# Altium footprint library MY_TP.PCBLIB: 9 footprints
Each footprint in its own frame and in the unit in brackets; x right, y up, seen from the top. Pads: shape width x height; smd on the part's side, far side on the other; paste and mask are expansions set on the pad; w line width, h text height; cw(c..) or ccw(c..) is an arc to the next point about the centre after c.
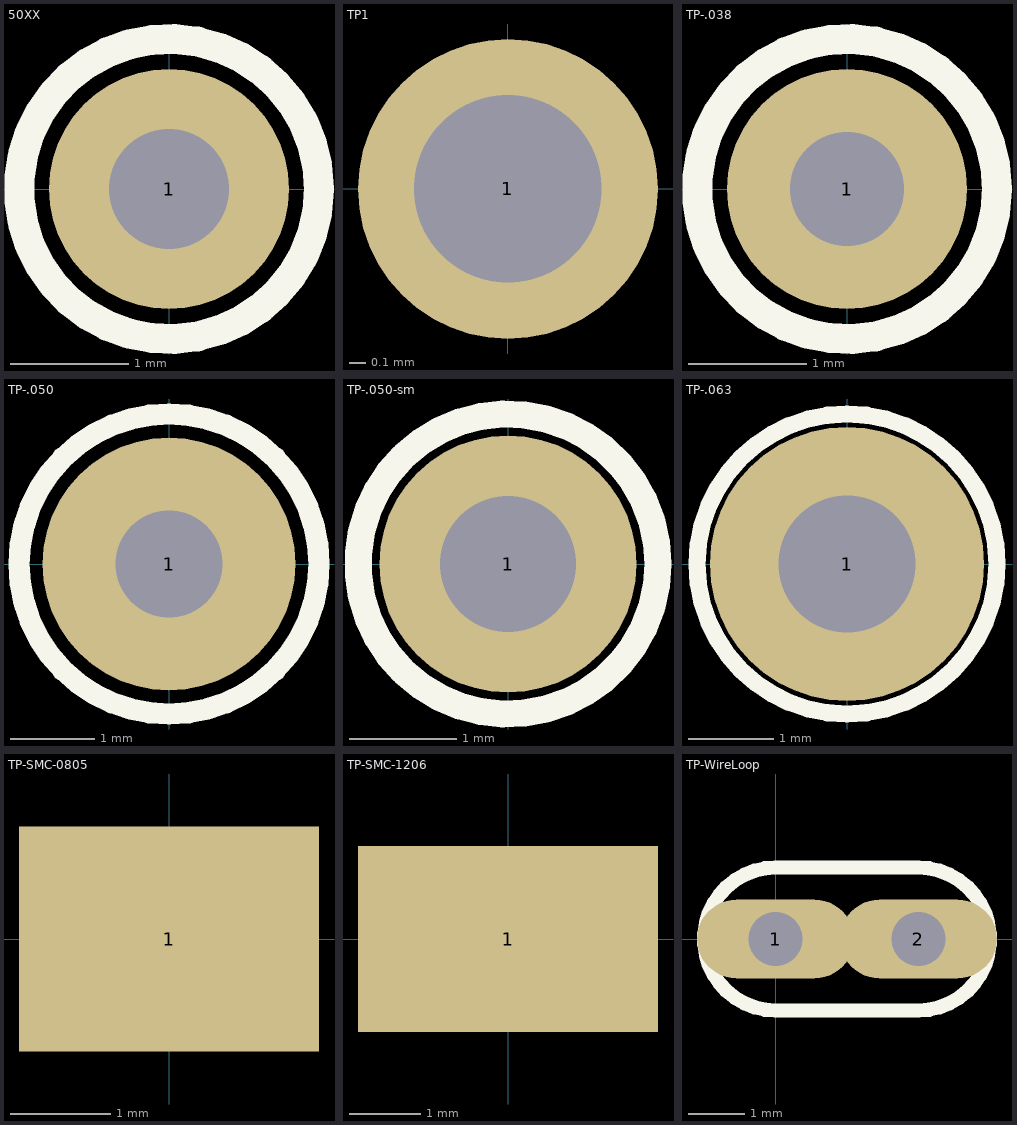
[diagram p0: the footprints below, top view; thin cyan lines are the x and y axes]

## 50XX [mil] "5000 Keystone Seroies Test points"
height 708.66
pads (1):
  round 80 hole 40: 1(0,0)
Top Overlay:
  circle w10: c0,0 r50

## TP1 [mil]
pads (1):
  round 72 hole 45: 1(0,0)

## TP-.038 [mil] "Gold Test Point"
height 196.85
pads (1):
  round 80 hole 38: 1(0,0)
Top Overlay:
  circle w10: c0,0 r50

## TP-.050 [mm] "50mil hole wide annular ring"
height 5
pads (1):
  round 3 hole 1.27: 1(0,0)
Top Overlay:
  circle w0.254: c0,0 r1.778

## TP-.050-sm [mm] "50 mill hole 2.4mm anular ring"
pads (1):
  round 2.4 hole 1.27: 1(0,0)
Top Overlay:
  circle w0.254: c0,0 r1.4

## TP-.063 [mm] "63mil hole size large annular ring."
pads (1):
  round 3.2 hole 1.6: 1(0,0)
Top Overlay:
  circle w0.2: c0,0 r1.75

## TP-SMC-0805 [mm] "0805 test point"
height 1.5
pads (1):
  rect 3x2.25 smd mask+0: 1(0,0)

## TP-SMC-1206 [mm] "Surface mount test point 1206"
height 1.25
pads (1):
  rect 4.2x2.6 smd mask+0: 1(0,0)
3D body "c-1625854-1-ba-3d.stp": height 1.28, standoff 0.03, extent -1.473,-0.889 1.727,0.711

## TP-WireLoop [mil] "2 hole wire loop style test point"
pads (2):
  oval 110x55 hole 38: 1(0,0) 2(100,0)
Top Overlay:
  lines w10: 0,-50 cw(c0,0) 0,50 100,50 cw(c100,0) 100,-50 0,-50